# Altium schematic symbol library CON_08_pin_GOST.SchLib: 1 symbol
Pins are listed as number, name and electrical type; pins without a type are passive.

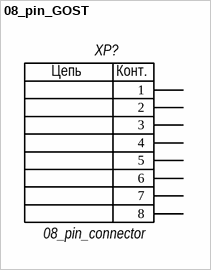
[diagram p0: symbol 08_pin_GOST]

## 08_pin_GOST
designator XP?, comment 08_pin_connector
footprint MOLEX PB8
footprint MOLEX PB8 - V
pins: 1, 2, 3, 4, 5, 6, 7, 8
text: Цепь; Конт.